# Altium footprint library CONN_HDR_2.54MM_RA_SMD.PcbLib: 56 footprints (part 3 of 4)
Each footprint in its own frame and in the unit in brackets; x right, y up, seen from the top. Pads: shape width x height; smd on the part's side, far side on the other; paste and mask are expansions set on the pad; w line width, h text height; cw(c..) or ccw(c..) is an arc to the next point about the centre after c.
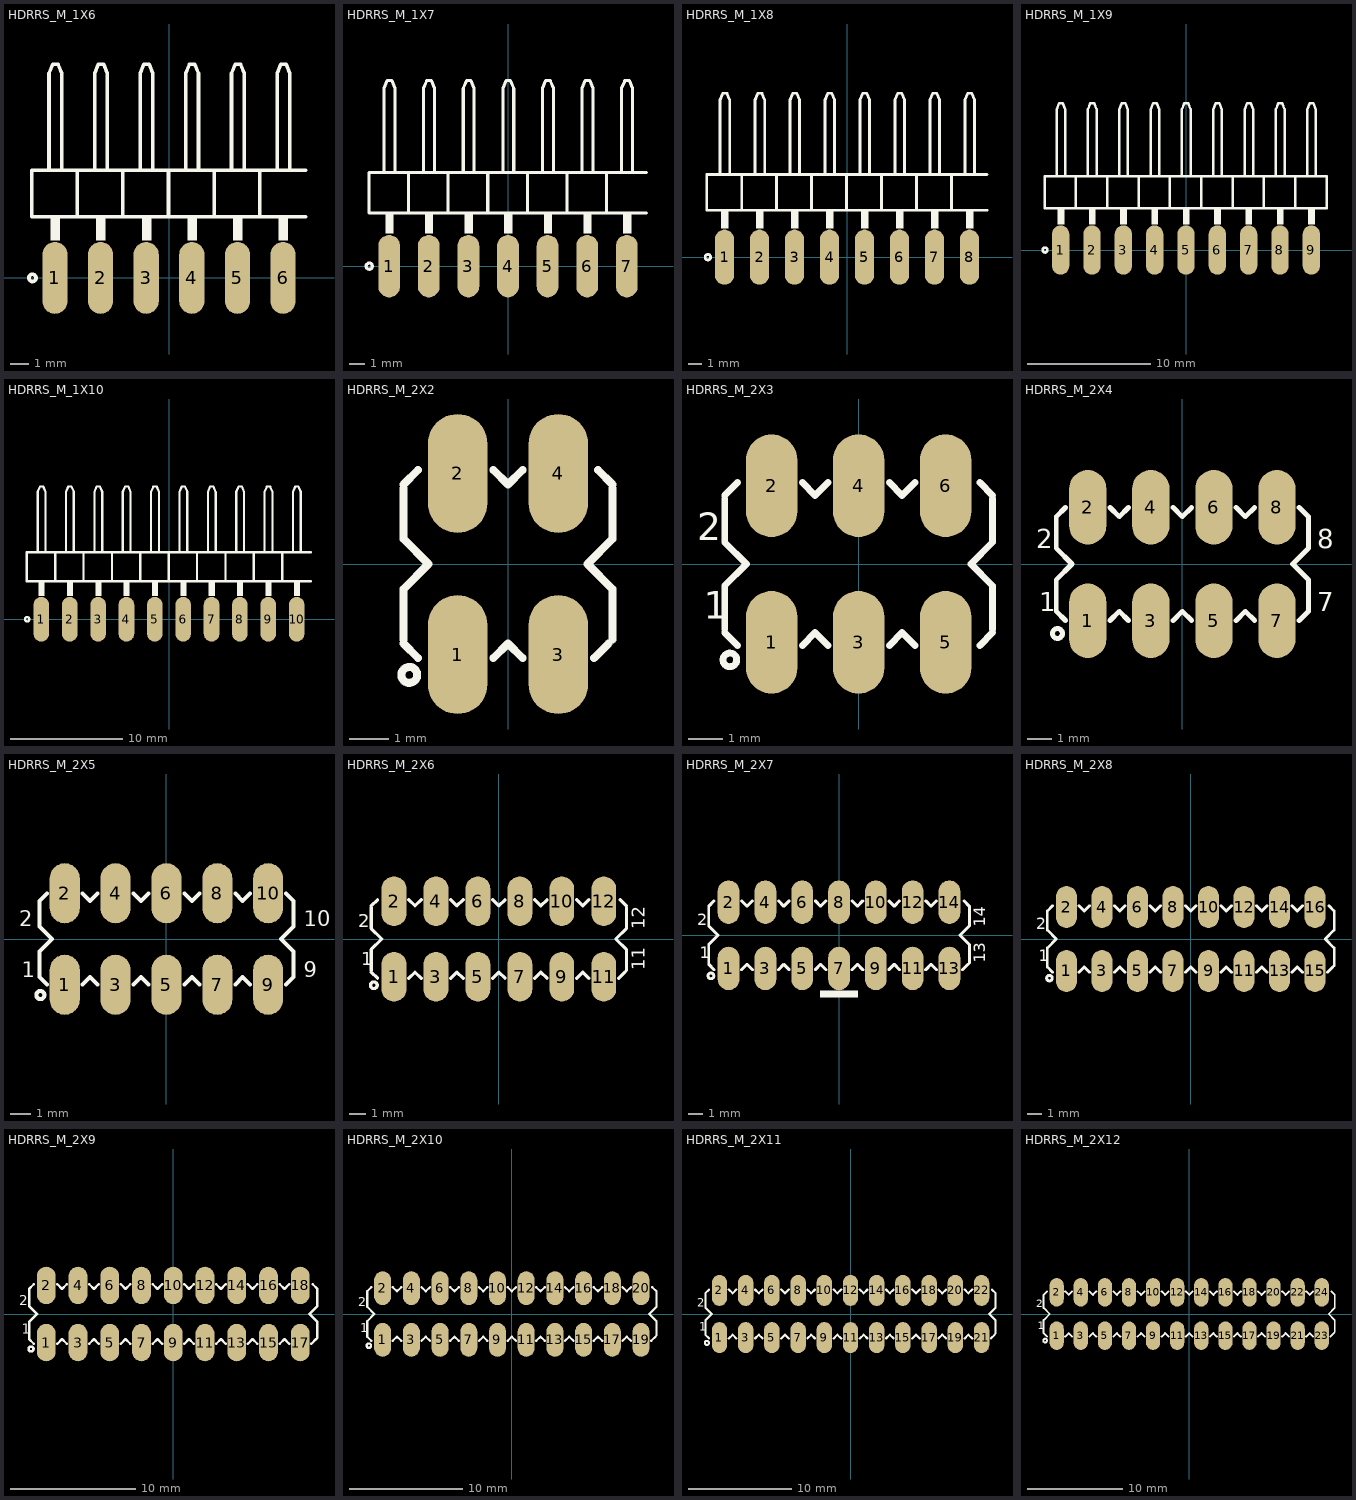
[diagram p2: the footprints below, top view; thin cyan lines are the x and y axes]

## HDRRS_M_1X6 [mm] "Connector; Header; 6 Position"
pads (6):
  oval 1.4x4 smd mask+0.1: 1(-6.35,0) 2(-3.81,0) 3(-1.27,0) 4(1.27,0) 5(3.81,0) 6(6.35,0)
Top Overlay:
  circle w0.2: c-7.6,0 r0.2
  region: -6.58,2.1 -6.58,3.4 -6.08,3.4 -6.08,2.1
  region: -4.04,2.1 -4.04,3.4 -3.54,3.4 -3.54,2.1
  region: -1.5,2.1 -1.5,3.4 -1,3.4 -1,2.1
  region: 1.04,2.1 1.04,3.4 1.54,3.4 1.54,2.1
  region: 3.58,2.1 3.58,3.4 4.08,3.4 4.08,2.1
  region: 6.12,2.1 6.12,3.4 6.62,3.4 6.62,2.1
  lines w0.2: -6.68,6 -6.68,11.4 -6.48,11.9 -6.18,11.9 -5.98,11.4 ; -5.98,6 -5.98,11.4 ; -5.08,3.4 -7.65,3.4 -7.65,6 -5.08,6 ; -4.14,6 -4.14,11.4 -3.94,11.9 -3.64,11.9 -3.44,11.4 ; -3.44,6 -3.44,11.4 ; -2.54,3.4 -5.11,3.4 -5.11,6 -2.54,6 ; -1.6,6 -1.6,11.4 -1.4,11.9 -1.1,11.9 -0.9,11.4 ; -0.9,6 -0.9,11.4 ; 0,3.4 -2.57,3.4 -2.57,6 0,6 ; 0.94,6 0.94,11.4 1.14,11.9 1.44,11.9 1.64,11.4 ; 1.64,6 1.64,11.4 ; 2.54,3.4 -0.03,3.4 -0.03,6 2.54,6 ; 3.48,6 3.48,11.4 3.68,11.9 3.98,11.9 4.18,11.4 ; 4.18,6 4.18,11.4 ; 5.08,3.4 2.51,3.4 2.51,6 5.08,6 ; 6.02,6 6.02,11.4 6.22,11.9 6.52,11.9 6.72,11.4 ; 6.72,6 6.72,11.4 ; 7.62,3.4 5.05,3.4 5.05,6 7.62,6 ; -5.98,11.4 -5.98,11.4 ; -3.44,11.4 -3.44,11.4 ; -0.9,11.4 -0.9,11.4 ; 1.64,11.4 1.64,11.4 ; 4.18,11.4 4.18,11.4 ; 6.72,11.4 6.72,11.4
3D body "HDR_M_1X3RASMD.step": height 3, standoff 0, extent -7.637,-1.5 0.001,11.7
3D body "HDR_M_1X3RASMD.step": height 3, standoff 0, extent -0.017,-1.5 7.621,11.7

## HDRRS_M_1X7 [mm] "Connector; Header; 7 Position"
pads (7):
  oval 1.4x4 smd mask+0.1: 1(-7.62,0) 2(-5.08,0) 3(-2.54,0) 4(0,0) 5(2.54,0) 6(5.08,0) 7(7.62,0)
Top Overlay:
  circle w0.2: c-8.9,0 r0.2
  region: 7.39,2.1 7.39,3.4 7.89,3.4 7.89,2.1
  region: 4.85,2.1 4.85,3.4 5.35,3.4 5.35,2.1
  region: 2.31,2.1 2.31,3.4 2.81,3.4 2.81,2.1
  region: -0.23,2.1 -0.23,3.4 0.27,3.4 0.27,2.1
  region: -2.77,2.1 -2.77,3.4 -2.27,3.4 -2.27,2.1
  region: -5.31,2.1 -5.31,3.4 -4.81,3.4 -4.81,2.1
  region: -7.85,2.1 -7.85,3.4 -7.35,3.4 -7.35,2.1
  lines w0.2: -7.95,6 -7.95,11.4 -7.75,11.9 -7.45,11.9 -7.25,11.4 ; -7.25,6 -7.25,11.4 ; -6.35,3.4 -8.92,3.4 -8.92,6 -6.35,6 ; -5.41,6 -5.41,11.4 -5.21,11.9 -4.91,11.9 -4.71,11.4 ; -4.71,6 -4.71,11.4 ; -3.81,3.4 -6.38,3.4 -6.38,6 -3.81,6 ; -2.87,6 -2.87,11.4 -2.67,11.9 -2.37,11.9 -2.17,11.4 ; -2.17,6 -2.17,11.4 ; -1.27,3.4 -3.84,3.4 -3.84,6 -1.27,6 ; -0.33,6 -0.33,11.4 -0.13,11.9 0.17,11.9 0.37,11.4 ; 0.37,6 0.37,11.4 ; 1.27,3.4 -1.3,3.4 -1.3,6 1.27,6 ; 2.21,6 2.21,11.4 2.41,11.9 2.71,11.9 2.91,11.4 ; 2.91,6 2.91,11.4 ; 3.81,3.4 1.24,3.4 1.24,6 3.81,6 ; 4.75,6 4.75,11.4 4.95,11.9 5.25,11.9 5.45,11.4 ; 5.45,6 5.45,11.4 ; 6.35,3.4 3.78,3.4 3.78,6 6.35,6 ; 7.29,6 7.29,11.4 7.49,11.9 7.79,11.9 7.99,11.4 ; 7.99,6 7.99,11.4 ; 8.89,3.4 6.32,3.4 6.32,6 8.89,6 ; -7.25,11.4 -7.25,11.4 ; -4.71,11.4 -4.71,11.4 ; -2.17,11.4 -2.17,11.4 ; 0.37,11.4 0.37,11.4 ; 2.91,11.4 2.91,11.4 ; 5.45,11.4 5.45,11.4 ; 7.99,11.4 7.99,11.4
3D body "HDR_M_1X3RASMD.step": height 3, standoff 0, extent -8.907,-1.5 -1.269,11.7
3D body "HDR_M_1X4RASMD.STEP": height 3, standoff 0, extent -1.287,-1.5 8.873,11.7

## HDRRS_M_1X8 [mm] "Connector; Header; 8 Position"
pads (8):
  oval 1.4x4 smd mask+0.1: 1(-8.89,0) 2(-6.35,0) 3(-3.81,0) 4(-1.27,0) 5(1.27,0) 6(3.81,0) 7(6.35,0) 8(8.89,0)
Top Overlay:
  circle w0.2: c-10.1,0 r0.2
  region: 8.66,2.1 8.66,3.4 9.16,3.4 9.16,2.1
  region: 6.12,2.1 6.12,3.4 6.62,3.4 6.62,2.1
  region: 3.58,2.1 3.58,3.4 4.08,3.4 4.08,2.1
  region: 1.04,2.1 1.04,3.4 1.54,3.4 1.54,2.1
  region: -1.5,2.1 -1.5,3.4 -1,3.4 -1,2.1
  region: -4.04,2.1 -4.04,3.4 -3.54,3.4 -3.54,2.1
  region: -6.58,2.1 -6.58,3.4 -6.08,3.4 -6.08,2.1
  region: -9.12,2.1 -9.12,3.4 -8.62,3.4 -8.62,2.1
  lines w0.2: -9.22,6 -9.22,11.4 -9.02,11.9 -8.72,11.9 -8.52,11.4 ; -8.52,6 -8.52,11.4 ; -7.62,3.4 -10.19,3.4 -10.19,6 -7.62,6 ; -6.68,6 -6.68,11.4 -6.48,11.9 -6.18,11.9 -5.98,11.4 ; -5.98,6 -5.98,11.4 ; -5.08,3.4 -7.65,3.4 -7.65,6 -5.08,6 ; -4.14,6 -4.14,11.4 -3.94,11.9 -3.64,11.9 -3.44,11.4 ; -3.44,6 -3.44,11.4 ; -2.54,3.4 -5.11,3.4 -5.11,6 -2.54,6 ; -1.6,6 -1.6,11.4 -1.4,11.9 -1.1,11.9 -0.9,11.4 ; -0.9,6 -0.9,11.4 ; 0,3.4 -2.57,3.4 -2.57,6 0,6 ; 0.94,6 0.94,11.4 1.14,11.9 1.44,11.9 1.64,11.4 ; 1.64,6 1.64,11.4 ; 2.54,3.4 -0.03,3.4 -0.03,6 2.54,6 ; 3.48,6 3.48,11.4 3.68,11.9 3.98,11.9 4.18,11.4 ; 4.18,6 4.18,11.4 ; 5.08,3.4 2.51,3.4 2.51,6 5.08,6 ; 6.02,6 6.02,11.4 6.22,11.9 6.52,11.9 6.72,11.4 ; 6.72,6 6.72,11.4 ; 7.62,3.4 5.05,3.4 5.05,6 7.62,6 ; 8.56,6 8.56,11.4 8.76,11.9 9.06,11.9 9.26,11.4 ; 9.26,6 9.26,11.4 ; 10.16,3.4 7.59,3.4 7.59,6 10.16,6 ; -8.52,11.4 -8.52,11.4 ; -5.98,11.4 -5.98,11.4 ; -3.44,11.4 -3.44,11.4 ; -0.9,11.4 -0.9,11.4 ; 1.64,11.4 1.64,11.4 ; 4.18,11.4 4.18,11.4 ; 6.72,11.4 6.72,11.4 ; 9.26,11.4 9.26,11.4
3D body "HDR_M_1X4RASMD.STEP": height 3, standoff 0, extent -10.177,-1.5 -0.017,11.7
3D body "HDR_M_1X4RASMD.STEP": height 3, standoff 0, extent -0.017,-1.5 10.143,11.7

## HDRRS_M_1X9 [mm] "Connector; Header; 9 Position"
pads (9):
  oval 1.4x4 smd mask+0.1: 1(-10.16,0) 2(-7.62,0) 3(-5.08,0) 4(-2.54,0) 5(0,0) 6(2.54,0) 7(5.08,0) 8(7.62,0) 9(10.16,0)
Top Overlay:
  circle w0.2: c-11.43,0 r0.2
  region: 9.93,2.1 9.93,3.4 10.43,3.4 10.43,2.1
  region: 7.39,2.1 7.39,3.4 7.89,3.4 7.89,2.1
  region: 4.85,2.1 4.85,3.4 5.35,3.4 5.35,2.1
  region: 2.31,2.1 2.31,3.4 2.81,3.4 2.81,2.1
  region: -0.23,2.1 -0.23,3.4 0.27,3.4 0.27,2.1
  region: -2.77,2.1 -2.77,3.4 -2.27,3.4 -2.27,2.1
  region: -5.31,2.1 -5.31,3.4 -4.81,3.4 -4.81,2.1
  region: -7.85,2.1 -7.85,3.4 -7.35,3.4 -7.35,2.1
  region: -10.39,2.1 -10.39,3.4 -9.89,3.4 -9.89,2.1
  lines w0.2: -10.49,6 -10.49,11.4 -10.29,11.9 -9.99,11.9 -9.79,11.4 ; -9.79,6 -9.79,11.4 ; -8.89,3.4 -11.46,3.4 -11.46,6 -8.89,6 ; -7.95,6 -7.95,11.4 -7.75,11.9 -7.45,11.9 -7.25,11.4 ; -7.25,6 -7.25,11.4 ; -6.35,3.4 -8.92,3.4 -8.92,6 -6.35,6 ; -5.41,6 -5.41,11.4 -5.21,11.9 -4.91,11.9 -4.71,11.4 ; -4.71,6 -4.71,11.4 ; -3.81,3.4 -6.38,3.4 -6.38,6 -3.81,6 ; -2.87,6 -2.87,11.4 -2.67,11.9 -2.37,11.9 -2.17,11.4 ; -2.17,6 -2.17,11.4 ; -1.27,3.4 -3.84,3.4 -3.84,6 -1.27,6 ; -0.33,6 -0.33,11.4 -0.13,11.9 0.17,11.9 0.37,11.4 ; 0.37,6 0.37,11.4 ; 1.27,3.4 -1.3,3.4 -1.3,6 1.27,6 ; 2.21,6 2.21,11.4 2.41,11.9 2.71,11.9 2.91,11.4 ; 2.91,6 2.91,11.4 ; 3.81,3.4 1.24,3.4 1.24,6 3.81,6 ; 4.75,6 4.75,11.4 4.95,11.9 5.25,11.9 5.45,11.4 ; 5.45,6 5.45,11.4 ; 6.35,3.4 3.78,3.4 3.78,6 6.35,6 ; 7.29,6 7.29,11.4 7.49,11.9 7.79,11.9 7.99,11.4 ; 7.99,6 7.99,11.4 ; 8.89,3.4 6.32,3.4 6.32,6 8.89,6 ; 9.83,6 9.83,11.4 10.03,11.9 10.33,11.9 10.53,11.4 ; 10.53,6 10.53,11.4 ; 11.4,3.4 11.4,6 ; 11.43,3.4 8.86,3.4 8.86,6 11.43,6 ; -9.79,11.4 -9.79,11.4 ; -7.25,11.4 -7.25,11.4 ; -4.71,11.4 -4.71,11.4 ; -2.17,11.4 -2.17,11.4 ; 0.37,11.4 0.37,11.4 ; 2.91,11.4 2.91,11.4 ; 5.45,11.4 5.45,11.4 ; 7.99,11.4 7.99,11.4 ; 10.53,11.4 10.53,11.4
3D body "HDR_M_1X3RASMD.step": height 3, standoff 0, extent 3.793,-1.5 11.431,11.7
3D body "HDR_M_1X3RASMD.step": height 3, standoff 0, extent -3.827,-1.5 3.811,11.7
3D body "HDR_M_1X3RASMD.step": height 3, standoff 0, extent -11.447,-1.5 -3.809,11.7

## HDRRS_M_1X10 [mm] "Connector; Header; 10 Position"
pads (10):
  oval 1.4x4 smd mask+0.1: 1(-11.43,0) 2(-8.89,0) 3(-6.35,0) 4(-3.81,0) 5(-1.27,0) 6(1.27,0) 7(3.81,0) 8(6.35,0) 9(8.89,0) 10(11.43,0)
Top Overlay:
  circle w0.2: c-12.7,0 r0.2
  region: 11.2,2.1 11.2,3.4 11.7,3.4 11.7,2.1
  region: 8.66,2.1 8.66,3.4 9.16,3.4 9.16,2.1
  region: 6.12,2.1 6.12,3.4 6.62,3.4 6.62,2.1
  region: 3.58,2.1 3.58,3.4 4.08,3.4 4.08,2.1
  region: 1.04,2.1 1.04,3.4 1.54,3.4 1.54,2.1
  region: -1.5,2.1 -1.5,3.4 -1,3.4 -1,2.1
  region: -4.04,2.1 -4.04,3.4 -3.54,3.4 -3.54,2.1
  region: -6.58,2.1 -6.58,3.4 -6.08,3.4 -6.08,2.1
  region: -9.12,2.1 -9.12,3.4 -8.62,3.4 -8.62,2.1
  region: -11.66,2.1 -11.66,3.4 -11.16,3.4 -11.16,2.1
  lines w0.2: -11.76,6 -11.76,11.4 -11.56,11.9 -11.26,11.9 -11.06,11.4 ; -11.06,6 -11.06,11.4 ; -10.16,3.4 -12.73,3.4 -12.73,6 -10.16,6 ; -9.22,6 -9.22,11.4 -9.02,11.9 -8.72,11.9 -8.52,11.4 ; -8.52,6 -8.52,11.4 ; -7.62,3.4 -10.19,3.4 -10.19,6 -7.62,6 ; -6.68,6 -6.68,11.4 -6.48,11.9 -6.18,11.9 -5.98,11.4 ; -5.98,6 -5.98,11.4 ; -5.08,3.4 -7.65,3.4 -7.65,6 -5.08,6 ; -4.14,6 -4.14,11.4 -3.94,11.9 -3.64,11.9 -3.44,11.4 ; -3.44,6 -3.44,11.4 ; -2.54,3.4 -5.11,3.4 -5.11,6 -2.54,6 ; -1.6,6 -1.6,11.4 -1.4,11.9 -1.1,11.9 -0.9,11.4 ; -0.9,6 -0.9,11.4 ; 0,3.4 -2.57,3.4 -2.57,6 0,6 ; 0.94,6 0.94,11.4 1.14,11.9 1.44,11.9 1.64,11.4 ; 1.64,6 1.64,11.4 ; 2.54,3.4 -0.03,3.4 -0.03,6 2.54,6 ; 3.48,6 3.48,11.4 3.68,11.9 3.98,11.9 4.18,11.4 ; 4.18,6 4.18,11.4 ; 5.08,3.4 2.51,3.4 2.51,6 5.08,6 ; 6.02,6 6.02,11.4 6.22,11.9 6.52,11.9 6.72,11.4 ; 6.72,6 6.72,11.4 ; 7.62,3.4 5.05,3.4 5.05,6 7.62,6 ; 8.56,6 8.56,11.4 8.76,11.9 9.06,11.9 9.26,11.4 ; 9.26,6 9.26,11.4 ; 10.16,3.4 7.59,3.4 7.59,6 10.16,6 ; 11.1,6 11.1,11.4 11.3,11.9 11.6,11.9 11.8,11.4 ; 11.8,6 11.8,11.4 ; 12.7,3.4 10.13,3.4 10.13,6 12.7,6 ; -11.06,11.4 -11.06,11.4 ; -8.52,11.4 -8.52,11.4 ; -5.98,11.4 -5.98,11.4 ; -3.44,11.4 -3.44,11.4 ; -0.9,11.4 -0.9,11.4 ; 1.64,11.4 1.64,11.4 ; 4.18,11.4 4.18,11.4 ; 6.72,11.4 6.72,11.4 ; 9.26,11.4 9.26,11.4 ; 11.8,11.4 11.8,11.4
3D body "HDR_M_1X4RASMD.STEP": height 3, standoff 0, extent -12.717,-1.5 -2.557,11.7
3D body "HDR_M_1X4RASMD.STEP": height 3, standoff 0, extent -2.557,-1.5 7.603,11.7
3D body "HDR_M_1X2RASMD.step": height 3, standoff 0, extent 7.603,-1.5 12.517,11.7

## HDRRS_M_2X2 [mm] "HEADER, 2.54mm, 2 Rows, Right Angle, Male, SMD"
pads (4):
  oval 1.5x3 smd: 1(-1.27,-2.286) 2(-1.27,2.286) 3(1.27,-2.286) 4(1.27,2.286)
Top Overlay:
  circle w0.2: c-2.49,-2.8 r0.2
  lines w0.2: -2.64,-2.005 -2.267,-2.378 ; -2.64,-1.905 -2.64,-0.635 -2.005,0 -2.64,0.635 -2.64,1.905 ; -2.64,2.005 -2.267,2.378 ; -0.373,-2.378 0,-2.005 0.373,-2.378 ; -0.373,2.378 0,2.005 0.373,2.378 ; 2.167,-2.378 2.54,-2.005 ; 2.267,2.378 2.64,2.005 ; 2.64,-1.905 2.64,-0.635 2.005,0 2.64,0.635 2.64,1.905
3D body "BB02-TH041-X0X-060000.STEP": height 5, standoff 0, extent -2.54,-13.395 2.5,2.795

## HDRRS_M_2X3 [mm] "HEADER, 2.54mm, 2 Rows, Right Angle, Male, SMD"
pads (6):
  oval 1.5x3 smd: 1(-2.54,-2.286) 2(-2.54,2.286) 3(0,-2.286) 4(0,2.286) 5(2.54,-2.286) 6(2.54,2.286)
Top Overlay:
  circle w0.2: c-3.76,-2.8 r0.2
  lines w0.2: -3.91,-2.005 -3.537,-2.378 ; -3.91,-1.905 -3.91,-0.635 -3.275,0 -3.91,0.635 -3.91,1.905 ; -3.91,2.005 -3.537,2.378 ; -1.643,-2.378 -1.27,-2.005 -0.897,-2.378 ; -1.643,2.378 -1.27,2.005 -0.897,2.378 ; 0.897,-2.378 1.27,-2.005 1.643,-2.378 ; 0.897,2.378 1.27,2.005 1.643,2.378 ; 3.537,-2.378 3.91,-2.005 ; 3.537,2.378 3.91,2.005 ; 3.91,-1.905 3.91,-0.635 3.275,0 3.91,0.635 3.91,1.905
  text "2" at -4.72,0.7 h0.8
  text "1" at -4.52,-1.6 h0.8
3D body "BB02-TH061-X0X-060000.STEP": height 5, standoff 0, extent -3.791,-13.39 3.791,2.8

## HDRRS_M_2X4 [mm] "HEADER, 2.54mm, 2 Rows, Right Angle, Male, SMD"
pads (8):
  oval 1.5x3 smd: 1(-3.81,-2.286) 2(-3.81,2.286) 3(-1.27,-2.286) 4(-1.27,2.286) 5(1.27,-2.286) 6(1.27,2.286) 7(3.81,-2.286) 8(3.81,2.286)
Top Overlay:
  circle w0.2: c-5.03,-2.8 r0.2
  lines w0.2: -4.707,-2.278 -5.08,-1.905 -5.08,-0.635 -4.445,0 -5.08,0.635 -5.08,1.905 -4.707,2.278 ; -2.913,-2.278 -2.54,-1.905 -2.167,-2.278 ; -2.913,2.278 -2.54,1.905 -2.167,2.278 ; -0.373,-2.278 0,-1.905 0.373,-2.278 ; -0.373,2.278 0,1.905 0.373,2.278 ; 2.167,-2.278 2.54,-1.905 2.913,-2.278 ; 2.167,2.278 2.54,1.905 2.913,2.278 ; 4.707,-2.278 5.08,-1.905 5.08,-0.635 4.445,0 5.08,0.635 5.08,1.905 4.707,2.278
  text "7" at 5.428,-1.905 h0.76
  text "8" at 5.428,0.635 h0.76
  text "1" at -5.769,-1.905 h0.76
  text "2" at -5.896,0.635 h0.76
3D body "BB02-TH081-X0X-060000.STEP": height 5, standoff 0, extent -5.06,-13.395 5.1,2.795

## HDRRS_M_2X5 [mm] "HEADER, 2.54mm, 2 Rows, Right Angle, Male, SMD"
pads (10):
  oval 1.5x3 smd: 1(-5.08,-2.286) 2(-5.08,2.286) 3(-2.54,-2.286) 4(-2.54,2.286) 5(0,-2.286) 6(0,2.286) 7(2.54,-2.286) 8(2.54,2.286) 9(5.08,-2.286) 10(5.08,2.286)
Top Overlay:
  circle w0.2: c-6.3,-2.8 r0.2
  lines w0.2: -5.977,-2.278 -6.35,-1.905 -6.35,-0.635 -5.715,0 -6.35,0.635 -6.35,1.905 -5.977,2.278 ; -4.183,-2.278 -3.81,-1.905 -3.437,-2.278 ; -4.183,2.278 -3.81,1.905 -3.437,2.278 ; -1.643,-2.278 -1.27,-1.905 -0.897,-2.278 ; -1.643,2.278 -1.27,1.905 -0.897,2.278 ; 0.897,-2.278 1.27,-1.905 1.643,-2.278 ; 0.897,2.278 1.27,1.905 1.643,2.278 ; 3.437,-2.278 3.81,-1.905 4.183,-2.278 ; 3.437,2.278 3.81,1.905 4.183,2.278 ; 5.977,-2.278 6.35,-1.905 6.35,-0.635 5.715,0 6.35,0.635 6.35,1.905 5.977,2.278
  text "2" at -7.366,0.635 h0.76
  text "1" at -7.239,-1.905 h0.76
  text "10" at 6.858,0.635 h0.76
  text "9" at 6.858,-1.905 h0.76
3D body "BB02-TH061-X0X-060000.STEP": height 5, standoff 0, extent -1.251,-13.39 6.331,2.8
3D body "BB02-TH041-X0X-060000.STEP": height 5, standoff 0, extent -6.35,-13.395 -1.31,2.795

## HDRRS_M_2X6 [mm] "HEADER, 2.54mm, 2 Rows, Right Angle, Male, SMD"
pads (12):
  oval 1.5x3 smd: 1(-6.35,-2.286) 2(-6.35,2.286) 3(-3.81,-2.286) 4(-3.81,2.286) 5(-1.27,-2.286) 6(-1.27,2.286) 7(1.27,-2.286) 8(1.27,2.286) 9(3.81,-2.286) 10(3.81,2.286) 11(6.35,-2.286) 12(6.35,2.286)
Top Overlay:
  circle w0.2: c-7.57,-2.8 r0.2
  lines w0.2: -7.72,-2.005 -7.347,-2.378 ; -7.72,-1.905 -7.72,-0.635 -7.085,0 -7.72,0.635 -7.72,1.905 ; -7.72,2.005 -7.347,2.378 ; -5.453,-2.378 -5.08,-2.005 -4.707,-2.378 ; -5.453,2.378 -5.08,2.005 -4.707,2.378 ; -2.913,-2.378 -2.54,-2.005 -2.167,-2.378 ; -2.913,2.378 -2.54,2.005 -2.167,2.378 ; -0.373,-2.378 0,-2.005 0.373,-2.378 ; -0.373,2.378 0,2.005 0.373,2.378 ; 2.167,-2.378 2.54,-2.005 2.913,-2.378 ; 2.167,2.378 2.54,2.005 2.913,2.378 ; 4.707,-2.378 5.08,-2.005 5.453,-2.378 ; 4.707,2.378 5.08,2.005 5.453,2.378 ; 7.247,-2.378 7.62,-2.005 ; 7.347,2.378 7.72,2.005 ; 7.72,-1.905 7.72,-0.635 7.085,0 7.72,0.635 7.72,1.905
  text "1" at -8.33,-1.6 h0.8
  text "2" at -8.53,0.7 h0.8
  text "11" at 8.83,-1.9 h0.8
  text "12" at 8.83,0.6 h0.8
3D body "BB02-TH061-X0X-060000.STEP": height 5, standoff 0, extent 0.019,-13.39 7.601,2.8
3D body "BB02-TH061-X0X-060000.STEP": height 5, standoff 0, extent -7.601,-13.39 -0.019,2.8

## HDRRS_M_2X7 [mm] "HEADER, 2.54mm, 2 Rows, Right Angle, Male, SMD"
pads (14):
  oval 1.5x3 smd: 1(-7.62,-2.286) 2(-7.62,2.286) 3(-5.08,-2.286) 4(-5.08,2.286) 5(-2.54,-2.286) 6(-2.54,2.286) 7(0,-2.286) 8(0,2.286) 9(2.54,-2.286) 10(2.54,2.286) 11(5.08,-2.286) 12(5.08,2.286) 13(7.62,-2.286) 14(7.62,2.286)
Top Overlay:
  circle w0.2: c-8.84,-2.8 r0.2
  rectangle: -1.3,-4.3 1.3,-3.8
  lines w0.2: -8.99,-2.005 -8.617,-2.378 ; -8.99,-1.905 -8.99,-0.635 -8.355,0 -8.99,0.635 -8.99,1.905 ; -8.99,2.005 -8.617,2.378 ; -6.723,-2.378 -6.35,-2.005 -5.977,-2.378 ; -6.723,2.378 -6.35,2.005 -5.977,2.378 ; -4.183,-2.378 -3.81,-2.005 -3.437,-2.378 ; -4.183,2.378 -3.81,2.005 -3.437,2.378 ; -1.643,-2.378 -1.27,-2.005 -0.897,-2.378 ; -1.643,2.378 -1.27,2.005 -0.897,2.378 ; 0.897,-2.378 1.27,-2.005 1.643,-2.378 ; 0.897,2.378 1.27,2.005 1.643,2.378 ; 3.437,-2.378 3.81,-2.005 4.183,-2.378 ; 3.437,2.378 3.81,2.005 4.183,2.378 ; 5.977,-2.378 6.35,-2.005 6.723,-2.378 ; 5.977,2.378 6.35,2.005 6.723,2.378 ; 8.517,-2.378 8.89,-2.005 ; 8.617,2.378 8.99,2.005 ; 8.99,-1.905 8.99,-0.635 8.355,0 8.99,0.635 8.99,1.905
  text "1" at -9.6,-1.6 h0.8
  text "2" at -9.8,0.7 h0.8
  text "13" at 10.1,-1.9 h0.8
  text "14" at 10.1,0.6 h0.8
3D body "BB02-TH081-X0X-060000.STEP": height 5, standoff 0, extent -1.25,-13.395 8.91,2.795
3D body "BB02-TH061-X0X-060000.STEP": height 5, standoff 0, extent -8.871,-13.39 -1.289,2.8

## HDRRS_M_2X8 [mm] "HEADER, 2.54mm, 2 Rows, Right Angle, Male, SMD"
pads (16):
  oval 1.5x3 smd: 1(-8.89,-2.286) 2(-8.89,2.286) 3(-6.35,-2.286) 4(-6.35,2.286) 5(-3.81,-2.286) 6(-3.81,2.286) 7(-1.27,-2.286) 8(-1.27,2.286) 9(1.27,-2.286) 10(1.27,2.286) 11(3.81,-2.286) 12(3.81,2.286) 13(6.35,-2.286) 14(6.35,2.286) 15(8.89,-2.286) 16(8.89,2.286)
Top Overlay:
  circle w0.2: c-10.11,-2.8 r0.2
  lines w0.2: -10.26,-2.005 -9.887,-2.378 ; -10.26,-1.905 -10.26,-0.635 -9.625,0 -10.26,0.635 -10.26,1.905 ; -10.26,2.005 -9.887,2.378 ; -7.993,-2.378 -7.62,-2.005 -7.247,-2.378 ; -7.993,2.378 -7.62,2.005 -7.247,2.378 ; -5.453,-2.378 -5.08,-2.005 -4.707,-2.378 ; -5.453,2.378 -5.08,2.005 -4.707,2.378 ; -2.913,-2.378 -2.54,-2.005 -2.167,-2.378 ; -2.913,2.378 -2.54,2.005 -2.167,2.378 ; -0.373,-2.378 0,-2.005 0.373,-2.378 ; -0.373,2.378 0,2.005 0.373,2.378 ; 2.167,-2.378 2.54,-2.005 2.913,-2.378 ; 2.167,2.378 2.54,2.005 2.913,2.378 ; 4.707,-2.378 5.08,-2.005 5.453,-2.378 ; 4.707,2.378 5.08,2.005 5.453,2.378 ; 7.247,-2.378 7.62,-2.005 7.993,-2.378 ; 7.247,2.378 7.62,2.005 7.993,2.378 ; 9.787,-2.378 10.16,-2.005 ; 9.887,2.378 10.26,2.005 ; 10.26,-1.905 10.26,-0.635 9.625,0 10.26,0.635 10.26,1.905
  text "1" at -10.87,-1.6 h0.8
  text "2" at -11.07,0.7 h0.8
3D body "BB02-TH081-X0X-060000.STEP": height 5, standoff 0, extent 0.02,-13.395 10.18,2.795
3D body "BB02-TH081-X0X-060000.STEP": height 5, standoff 0, extent -10.14,-13.395 0.02,2.795

## HDRRS_M_2X9 [mm] "HEADER, 2.54mm, 2 Rows, Right Angle, Male, SMD"
pads (18):
  oval 1.5x3 smd: 1(-10.16,-2.286) 2(-10.16,2.286) 3(-7.62,-2.286) 4(-7.62,2.286) 5(-5.08,-2.286) 6(-5.08,2.286) 7(-2.54,-2.286) 8(-2.54,2.286) 9(0,-2.286) 10(0,2.286) 11(2.54,-2.286) 12(2.54,2.286) 13(5.08,-2.286) 14(5.08,2.286) 15(7.62,-2.286) 16(7.62,2.286) 17(10.16,-2.286) 18(10.16,2.286)
Top Overlay:
  circle w0.2: c-11.38,-2.8 r0.2
  lines w0.2: -11.53,-2.005 -11.157,-2.378 ; -11.53,-1.905 -11.53,-0.635 -10.895,0 -11.53,0.635 -11.53,1.905 ; -11.53,2.005 -11.157,2.378 ; -9.263,-2.378 -8.89,-2.005 -8.517,-2.378 ; -9.263,2.378 -8.89,2.005 -8.517,2.378 ; -6.723,-2.378 -6.35,-2.005 -5.977,-2.378 ; -6.723,2.378 -6.35,2.005 -5.977,2.378 ; -4.183,-2.378 -3.81,-2.005 -3.437,-2.378 ; -4.183,2.378 -3.81,2.005 -3.437,2.378 ; -1.643,-2.378 -1.27,-2.005 -0.897,-2.378 ; -1.643,2.378 -1.27,2.005 -0.897,2.378 ; 0.897,-2.378 1.27,-2.005 1.643,-2.378 ; 0.897,2.378 1.27,2.005 1.643,2.378 ; 3.437,-2.378 3.81,-2.005 4.183,-2.378 ; 3.437,2.378 3.81,2.005 4.183,2.378 ; 5.977,-2.378 6.35,-2.005 6.723,-2.378 ; 5.977,2.378 6.35,2.005 6.723,2.378 ; 8.517,-2.378 8.89,-2.005 9.263,-2.378 ; 8.517,2.378 8.89,2.005 9.263,2.378 ; 11.057,-2.378 11.43,-2.005 ; 11.157,2.378 11.53,2.005 ; 11.53,-1.905 11.53,-0.635 10.895,0 11.53,0.635 11.53,1.905
  text "2" at -12.34,0.7 h0.8
  text "1" at -12.14,-1.6 h0.8
3D body "BB02-TH061-X0X-060000.STEP": height 5, standoff 0, extent 3.829,-13.39 11.411,2.8
3D body "BB02-TH041-X0X-060000.STEP": height 5, standoff 0, extent -1.27,-13.395 3.77,2.795
3D body "BB02-TH081-X0X-060000.STEP": height 5, standoff 0, extent -11.41,-13.395 -1.25,2.795

## HDRRS_M_2X10 [mm] "HEADER, 2.54mm, 2 Rows, Right Angle, Male, SMD"
pads (20):
  oval 1.5x3 smd: 1(-11.43,-2.286) 2(-11.43,2.286) 3(-8.89,-2.286) 4(-8.89,2.286) 5(-6.35,-2.286) 6(-6.35,2.286) 7(-3.81,-2.286) 8(-3.81,2.286) 9(-1.27,-2.286) 10(-1.27,2.286) 11(1.27,-2.286) 12(1.27,2.286) 13(3.81,-2.286) 14(3.81,2.286) 15(6.35,-2.286) 16(6.35,2.286) 17(8.89,-2.286) 18(8.89,2.286) 19(11.43,-2.286) 20(11.43,2.286)
Top Overlay:
  circle w0.2: c-12.65,-2.8 r0.2
  lines w0.2: -12.8,-2.005 -12.427,-2.378 ; -12.8,-1.905 -12.8,-0.635 -12.165,0 -12.8,0.635 -12.8,1.905 ; -12.8,2.005 -12.427,2.378 ; -10.533,-2.378 -10.16,-2.005 -9.787,-2.378 ; -10.533,2.378 -10.16,2.005 -9.787,2.378 ; -7.993,-2.378 -7.62,-2.005 -7.247,-2.378 ; -7.993,2.378 -7.62,2.005 -7.247,2.378 ; -5.453,-2.378 -5.08,-2.005 -4.707,-2.378 ; -5.453,2.378 -5.08,2.005 -4.707,2.378 ; -2.913,-2.378 -2.54,-2.005 -2.167,-2.378 ; -2.913,2.378 -2.54,2.005 -2.167,2.378 ; -0.373,-2.378 0,-2.005 0.373,-2.378 ; -0.373,2.378 0,2.005 0.373,2.378 ; 2.167,-2.378 2.54,-2.005 2.913,-2.378 ; 2.167,2.378 2.54,2.005 2.913,2.378 ; 4.707,-2.378 5.08,-2.005 5.453,-2.378 ; 4.707,2.378 5.08,2.005 5.453,2.378 ; 7.247,-2.378 7.62,-2.005 7.993,-2.378 ; 7.247,2.378 7.62,2.005 7.993,2.378 ; 9.787,-2.378 10.16,-2.005 10.533,-2.378 ; 9.787,2.378 10.16,2.005 10.533,2.378 ; 12.327,-2.378 12.7,-2.005 ; 12.427,2.378 12.8,2.005 ; 12.8,-1.905 12.8,-0.635 12.165,0 12.8,0.635 12.8,1.905
  text "1" at -13.41,-1.6 h0.8
  text "2" at -13.61,0.7 h0.8
3D body "BB02-TH081-X0X-060000.STEP": height 5, standoff 0, extent -12.68,-13.395 -2.52,2.795
3D body "BB02-TH061-X0X-060000.STEP": height 5, standoff 0, extent -2.521,-13.39 5.061,2.8
3D body "BB02-TH061-X0X-060000.STEP": height 5, standoff 0, extent 5.099,-13.39 12.681,2.8

## HDRRS_M_2X11 [mm] "HEADER, 2.54mm, 2 Rows, Right Angle, Male, SMD"
pads (22):
  oval 1.5x3 smd: 1(-12.7,-2.286) 2(-12.7,2.286) 3(-10.16,-2.286) 4(-10.16,2.286) 5(-7.62,-2.286) 6(-7.62,2.286) 7(-5.08,-2.286) 8(-5.08,2.286) 9(-2.54,-2.286) 10(-2.54,2.286) 11(0,-2.286) 12(0,2.286) 13(2.54,-2.286) 14(2.54,2.286) 15(5.08,-2.286) 16(5.08,2.286) 17(7.62,-2.286) 18(7.62,2.286) 19(10.16,-2.286) 20(10.16,2.286) 21(12.7,-2.286) 22(12.7,2.286)
Top Overlay:
  circle w0.2: c-13.92,-2.8 r0.2
  lines w0.2: -14.07,-2.005 -13.697,-2.378 ; -14.07,-1.905 -14.07,-0.635 -13.435,0 -14.07,0.635 -14.07,1.905 ; -14.07,2.005 -13.697,2.378 ; -11.803,-2.378 -11.43,-2.005 -11.057,-2.378 ; -11.803,2.378 -11.43,2.005 -11.057,2.378 ; -9.263,-2.378 -8.89,-2.005 -8.517,-2.378 ; -9.263,2.378 -8.89,2.005 -8.517,2.378 ; -6.723,-2.378 -6.35,-2.005 -5.977,-2.378 ; -6.723,2.378 -6.35,2.005 -5.977,2.378 ; -4.183,-2.378 -3.81,-2.005 -3.437,-2.378 ; -4.183,2.378 -3.81,2.005 -3.437,2.378 ; -1.643,-2.378 -1.27,-2.005 -0.897,-2.378 ; -1.643,2.378 -1.27,2.005 -0.897,2.378 ; 0.897,-2.378 1.27,-2.005 1.643,-2.378 ; 0.897,2.378 1.27,2.005 1.643,2.378 ; 3.437,-2.378 3.81,-2.005 4.183,-2.378 ; 3.437,2.378 3.81,2.005 4.183,2.378 ; 5.977,-2.378 6.35,-2.005 6.723,-2.378 ; 5.977,2.378 6.35,2.005 6.723,2.378 ; 8.517,-2.378 8.89,-2.005 9.263,-2.378 ; 8.517,2.378 8.89,2.005 9.263,2.378 ; 11.057,-2.378 11.43,-2.005 11.803,-2.378 ; 11.057,2.378 11.43,2.005 11.803,2.378 ; 13.597,-2.378 13.97,-2.005 ; 13.697,2.378 14.07,2.005 ; 14.07,-1.905 14.07,-0.635 13.435,0 14.07,0.635 14.07,1.905
  text "1" at -14.68,-1.6 h0.8
  text "2" at -14.88,0.7 h0.8
3D body "BB02-TH081-X0X-060000.STEP": height 5, standoff 0, extent -3.79,-13.395 6.37,2.795
3D body "BB02-TH081-X0X-060000.STEP": height 5, standoff 0, extent -13.95,-13.395 -3.79,2.795
3D body "BB02-TH061-X0X-060000.STEP": height 5, standoff 0, extent 6.369,-13.39 13.951,2.8

## HDRRS_M_2X12 [mm] "HEADER, 2.54mm, 2 Rows, Right Angle, Male, SMD"
pads (24):
  oval 1.5x3 smd: 1(-13.97,-2.286) 2(-13.97,2.286) 3(-11.43,-2.286) 4(-11.43,2.286) 5(-8.89,-2.286) 6(-8.89,2.286) 7(-6.35,-2.286) 8(-6.35,2.286) 9(-3.81,-2.286) 10(-3.81,2.286) 11(-1.27,-2.286) 12(-1.27,2.286) 13(1.27,-2.286) 14(1.27,2.286) 15(3.81,-2.286) 16(3.81,2.286) 17(6.35,-2.286) 18(6.35,2.286) 19(8.89,-2.286) 20(8.89,2.286) 21(11.43,-2.286) 22(11.43,2.286) 23(13.97,-2.286) 24(13.97,2.286)
Top Overlay:
  circle w0.2: c-15.19,-2.8 r0.2
  lines w0.2: -15.34,-2.005 -14.967,-2.378 ; -15.34,-1.905 -15.34,-0.635 -14.705,0 -15.34,0.635 -15.34,1.905 ; -15.34,2.005 -14.967,2.378 ; -13.073,-2.378 -12.7,-2.005 -12.327,-2.378 ; -13.073,2.378 -12.7,2.005 -12.327,2.378 ; -10.533,-2.378 -10.16,-2.005 -9.787,-2.378 ; -10.533,2.378 -10.16,2.005 -9.787,2.378 ; -7.993,-2.378 -7.62,-2.005 -7.247,-2.378 ; -7.993,2.378 -7.62,2.005 -7.247,2.378 ; -5.453,-2.378 -5.08,-2.005 -4.707,-2.378 ; -5.453,2.378 -5.08,2.005 -4.707,2.378 ; -2.913,-2.378 -2.54,-2.005 -2.167,-2.378 ; -2.913,2.378 -2.54,2.005 -2.167,2.378 ; -0.373,-2.378 0,-2.005 0.373,-2.378 ; -0.373,2.378 0,2.005 0.373,2.378 ; 2.167,-2.378 2.54,-2.005 2.913,-2.378 ; 2.167,2.378 2.54,2.005 2.913,2.378 ; 4.707,-2.378 5.08,-2.005 5.453,-2.378 ; 4.707,2.378 5.08,2.005 5.453,2.378 ; 7.247,-2.378 7.62,-2.005 7.993,-2.378 ; 7.247,2.378 7.62,2.005 7.993,2.378 ; 9.787,-2.378 10.16,-2.005 10.533,-2.378 ; 9.787,2.378 10.16,2.005 10.533,2.378 ; 12.327,-2.378 12.7,-2.005 13.073,-2.378 ; 12.327,2.378 12.7,2.005 13.073,2.378 ; 14.867,-2.378 15.24,-2.005 ; 14.967,2.378 15.34,2.005 ; 15.34,-1.905 15.34,-0.635 14.705,0 15.34,0.635 15.34,1.905
  text "2" at -16.15,0.7 h0.8
  text "1" at -15.95,-1.6 h0.8
3D body "BB02-TH081-X0X-060000.STEP": height 5, standoff 0, extent -15.22,-13.395 -5.06,2.795
3D body "BB02-TH081-X0X-060000.STEP": height 5, standoff 0, extent -5.06,-13.395 5.1,2.795
3D body "BB02-TH081-X0X-060000.STEP": height 5, standoff 0, extent 5.1,-13.395 15.26,2.795